# EAGLE library part 67996-106HLF (library SamacSys_Parts)
Headers & Wire Housings BERGSTIK HDR Source: Datasheet <https://www.arrow.com/en/products/67996-106hlf/amphenol-fci>
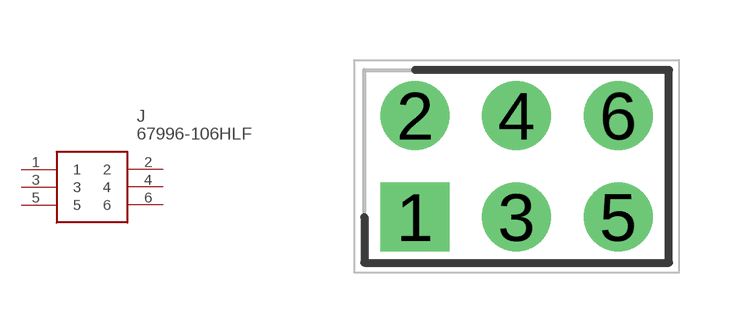
[diagram p1: symbol with the pads of HDRV6W67P254_2X3_762X483X858P; footprint HDRV6W67P254_2X3_762X483X858P]

Designator prefix J

## 67996-106HLF (DESCRIPTION: Headers & Wire Housings BERGSTIK HDR; HEIGHT: 8.58mm; MANUFACTURER_NAME: Amphenol; MANUFACTURER_PART_NUMBER: 67996-106HLF; MOUSER_PART_NUMBER: 649-67996-106HLF; MOUSER_PRICE-STOCK: https://www.mouser.co.uk/ProductDetail/Amphenol-FCI/67996-106HLF?qs=zh4O8xspOuxvaXUEpggJSw%3D%3D)  [HDRV6W67P254_2X3_762X483X858P]
1  1
2  2
3  3
4  4
5  5
6  6

## Footprint HDRV6W67P254_2X3_762X483X858P (pad centres in mm)
67996-106HLF
drill 1.15 pad 1.725 square: 1 0,0
drill 1.15 pad 1.725: 2 0,2.54; 3 2.54,0; 4 2.54,2.54; 5 5.08,0; 6 5.08,2.54